# Altium footprint library Devindia_v2.0.PcbLib: 105 footprints (part 1 of 7)
Each footprint in its own frame and in the unit in brackets; x right, y up, seen from the top. Pads: shape width x height; smd on the part's side, far side on the other; paste and mask are expansions set on the pad; w line width, h text height; cw(c..) or ccw(c..) is an arc to the next point about the centre after c.
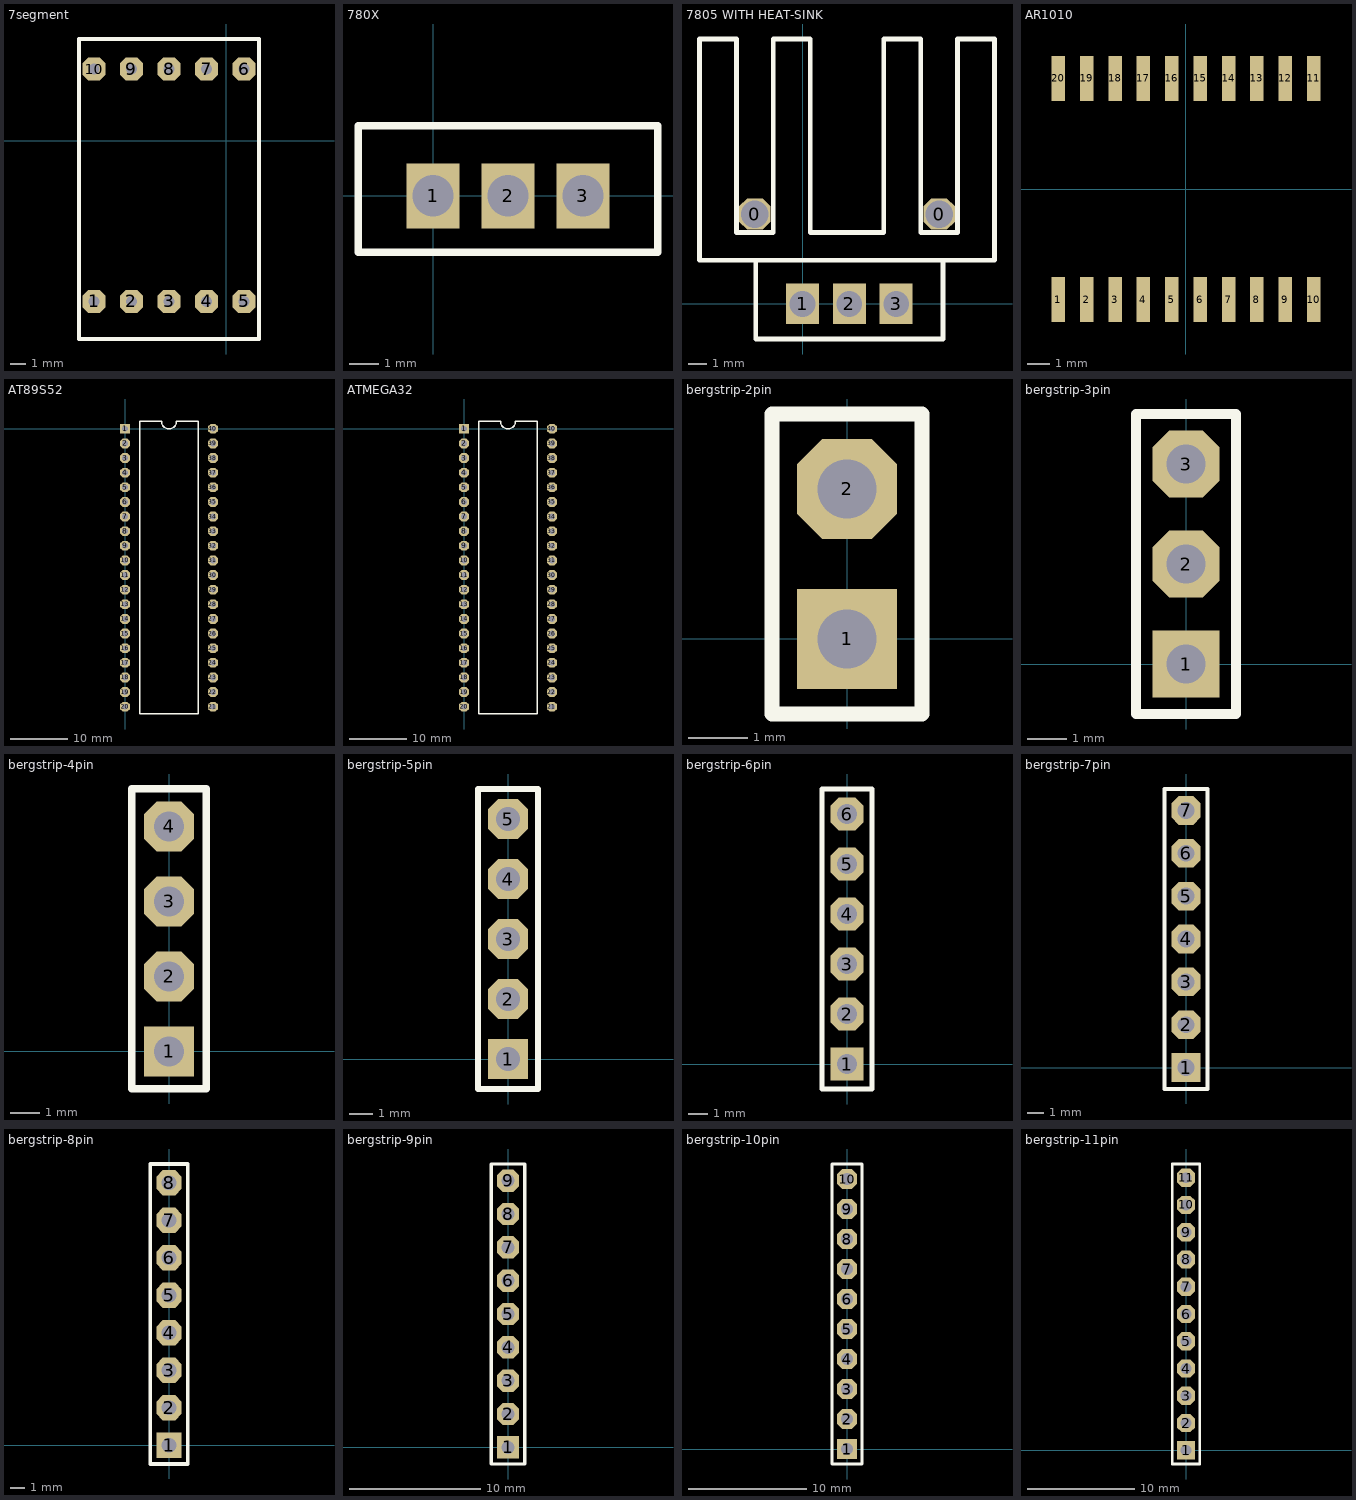
[diagram p0: the footprints below, top view; thin cyan lines are the x and y axes]

## 7segment [mil]
pads (10):
  oct 60x60 hole 30: 1(-347.52,-422.48) 2(-249.09,-422.48) 3(-150.67,-422.48) 4(-52.24,-422.48) 5(46.18,-422.48) 6(46.18,187.76) 7(-52.24,187.76) 8(-150.67,187.76) 9(-249.09,187.76) 10(-347.52,187.76)
Top Overlay:
  lines w10: -386.89,-520.91 -386.89,266.5 85.55,266.5 85.55,-520.91 -386.89,-520.91
3D body: height 362.2, standoff 354.33, extent -327.56,-438.19 7.09,-418.43
3D body: height 362.2, standoff 354.33, extent -285.98,174.57 48.66,194.33
3D body: height 362.2, standoff 354.33, extent 29.05,-376.46 68.35,-337.24
3D body: height 39.37, standoff 0, extent -367.17,-442.17 -327.87,-402.95
3D body: height 39.37, standoff 0, extent -268.74,-442.17 -229.45,-402.95
3D body: height 39.37, standoff 0, extent -170.32,-442.17 -131.02,-402.95
3D body: height 39.37, standoff 0, extent -71.89,-442.17 -32.6,-402.95
3D body: height 39.37, standoff 0, extent 26.53,-442.17 65.83,-402.95
3D body: height 39.37, standoff 0, extent -367.17,168.07 -327.87,207.29
3D body: height 39.37, standoff 0, extent -268.74,168.07 -229.45,207.29
3D body: height 39.37, standoff 0, extent -170.32,168.07 -131.02,207.29
3D body: height 39.37, standoff 0, extent -71.89,168.07 -32.6,207.29
3D body: height 39.37, standoff 0, extent 26.53,168.07 65.83,207.29
3D body: height 354.33, standoff 39.37, extent -384.41,-514.33 88.03,273.07
3D body: height 362.2, standoff 354.33, extent -305.67,-140.31 28.98,-100.94
3D body: height 362.2, standoff 354.33, extent 9.29,-100.94 48.66,174.65
3D body: height 362.2, standoff 354.33, extent -10.39,-415.91 28.98,-140.31
3D body: height 362.2, standoff 354.33, extent -325.35,-415.91 -285.98,-140.31
3D body: height 362.2, standoff 354.33, extent -305.67,-100.94 -266.3,174.65

## 780X [mm]
pads (3):
  rect 1.8x2.2 hole 1.4: 1(0,0) 2(2.54,0) 3(5.08,0)
Top Overlay:
  lines w0.254: -2.54,-1.905 7.62,-1.905 7.62,2.373 -2.54,2.373 -2.54,-1.905
3D body: height 16, standoff 7, extent -2.413,-2.032 7.747,2.413
3D body: height 7, standoff 0, extent -0.635,-0.127 0.635,0.127
3D body: height 7, standoff 0, extent 1.905,-0.127 3.175,0.127
3D body: height 7, standoff 0, extent 4.445,-0.127 5.715,0.127
3D body: height 23, standoff 16, extent -2.413,1.016 7.493,2.413

## 7805 WITH HEAT-SINK [mm]
pads (5):
  oct 1.7x1.7 hole 1.5: 0(-2.587,4.873) 0(7.413,4.873)
  rect 1.8x2.2 hole 1.4: 1(0,0) 2(2.54,0) 3(5.08,0)
Top Overlay:
  lines w0.254: -5.587,2.373 10.413,2.373 10.413,14.373 8.413,14.373 8.413,3.873 6.413,3.873 6.413,14.373 4.413,14.373 4.413,3.873 0.413,3.873 0.413,14.373 -1.587,14.373 -1.587,3.873 -3.587,3.873 -3.587,14.373 -5.587,14.373 -5.587,2.373 ; -2.54,-1.905 -2.54,2.373 7.62,2.373 7.62,-1.905 -2.54,-1.905
3D body: height 20.5, standoff 0, extent -5.588,2.413 10.414,14.351
3D body: height 20, standoff 13, extent -2.413,1.016 7.493,2.413
3D body: height 7, standoff 0, extent 4.445,-0.127 5.715,0.127
3D body: height 7, standoff 0, extent 1.905,-0.127 3.175,0.127
3D body: height 7, standoff 0, extent -0.635,-0.127 0.635,0.127
3D body: height 13, standoff 4, extent -2.413,-2.032 7.747,2.413

## AR1010 [mm]
pads (20):
  rect 0.6x2 smd: 1(-5.715,-4.95) 2(-4.445,-4.95) 3(-3.175,-4.95) 4(-1.905,-4.95) 5(-0.635,-4.95) 6(0.635,-4.95) 7(1.905,-4.95) 8(3.175,-4.95) 9(4.445,-4.95) 10(5.715,-4.95) 11(5.715,4.95) 12(4.445,4.95) 13(3.175,4.95) 14(1.905,4.95) 15(0.635,4.95) 16(-0.635,4.95) 17(-1.905,4.95) 18(-3.175,4.95) 19(-4.445,4.95) 20(-5.715,4.95)
Bottom Overlay:
  circle w0.254: c-5.695,-3.115 r0.284
  lines w0.254: -6.4,-3.75 -6.4,3.75 6.4,3.75 6.4,-3.75 -6.4,-3.75
3D body: height 2.15, standoff 2.05, extent -5.969,-2.54 -5.46,-2.034
3D body: height 0.32, standoff 0, extent -5.969,-5.588 -5.461,-4.318
3D body: height 1, standoff 0.16, extent -5.969,-4.445 -5.461,-4.191
3D body: height 0.32, standoff 0, extent -5.969,-4.51 -5.461,-4.191
3D body: height 1.16, standoff 0.84, extent -5.969,-4.445 -5.461,-4.126
3D body: height 1.16, standoff 0.84, extent -5.969,-4.318 -5.461,-3.175
3D body: height 0.32, standoff 0, extent -4.699,-5.588 -4.191,-4.318
3D body: height 1, standoff 0.16, extent -4.699,-4.445 -4.191,-4.191
3D body: height 0.32, standoff 0, extent -4.699,-4.51 -4.191,-4.191
3D body: height 1.16, standoff 0.84, extent -4.699,-4.445 -4.191,-4.126
3D body: height 1.16, standoff 0.84, extent -4.699,-4.318 -4.191,-3.175
3D body: height 0.32, standoff 0, extent -3.429,-5.588 -2.921,-4.318
3D body: height 1, standoff 0.16, extent -3.429,-4.445 -2.921,-4.191
3D body: height 0.32, standoff 0, extent -3.429,-4.51 -2.921,-4.191
3D body: height 1.16, standoff 0.84, extent -3.429,-4.445 -2.921,-4.126
3D body: height 1.16, standoff 0.84, extent -3.429,-4.318 -2.921,-3.175
3D body: height 0.32, standoff 0, extent -2.159,-5.588 -1.651,-4.318
3D body: height 1, standoff 0.16, extent -2.159,-4.445 -1.651,-4.191
3D body: height 0.32, standoff 0, extent -2.159,-4.51 -1.651,-4.191
3D body: height 1.16, standoff 0.84, extent -2.159,-4.445 -1.651,-4.126
3D body: height 1.16, standoff 0.84, extent -2.159,-4.318 -1.651,-3.175
3D body: height 0.32, standoff 0, extent -0.889,-5.588 -0.381,-4.318
3D body: height 1, standoff 0.16, extent -0.889,-4.445 -0.381,-4.191
3D body: height 0.32, standoff 0, extent -0.889,-4.51 -0.381,-4.191
3D body: height 1.16, standoff 0.84, extent -0.889,-4.445 -0.381,-4.126
3D body: height 1.16, standoff 0.84, extent -0.889,-4.318 -0.381,-3.175
3D body: height 0.32, standoff 0, extent 0.381,-5.588 0.889,-4.318
3D body: height 1, standoff 0.16, extent 0.381,-4.445 0.889,-4.191
3D body: height 0.32, standoff 0, extent 0.381,-4.51 0.889,-4.191
3D body: height 1.16, standoff 0.84, extent 0.381,-4.445 0.889,-4.126
3D body: height 1.16, standoff 0.84, extent 0.381,-4.318 0.889,-3.175
3D body: height 0.32, standoff 0, extent 1.651,-5.588 2.159,-4.318
3D body: height 1, standoff 0.16, extent 1.651,-4.445 2.159,-4.191
3D body: height 0.32, standoff 0, extent 1.651,-4.51 2.159,-4.191
3D body: height 1.16, standoff 0.84, extent 1.651,-4.445 2.159,-4.126
3D body: height 1.16, standoff 0.84, extent 1.651,-4.318 2.159,-3.175
3D body: height 0.32, standoff 0, extent 2.921,-5.588 3.429,-4.318
3D body: height 1, standoff 0.16, extent 2.921,-4.445 3.429,-4.191
3D body: height 0.32, standoff 0, extent 2.921,-4.51 3.429,-4.191
3D body: height 1.16, standoff 0.84, extent 2.921,-4.445 3.429,-4.126
3D body: height 1.16, standoff 0.84, extent 2.921,-4.318 3.429,-3.175
3D body: height 0.32, standoff 0, extent 4.191,-5.588 4.699,-4.318
3D body: height 1, standoff 0.16, extent 4.191,-4.445 4.699,-4.191
3D body: height 0.32, standoff 0, extent 4.191,-4.51 4.699,-4.191
3D body: height 1.16, standoff 0.84, extent 4.191,-4.445 4.699,-4.126
3D body: height 1.16, standoff 0.84, extent 4.191,-4.318 4.699,-3.175
3D body: height 0.32, standoff 0, extent 5.461,-5.588 5.969,-4.318
3D body: height 1, standoff 0.16, extent 5.461,-4.445 5.969,-4.191
3D body: height 0.32, standoff 0, extent 5.461,-4.51 5.969,-4.191
3D body: height 1.16, standoff 0.84, extent 5.461,-4.445 5.969,-4.126
3D body: height 1.16, standoff 0.84, extent 5.461,-4.318 5.969,-3.175
3D body: height 0.32, standoff 0, extent 5.461,4.318 5.969,5.588
3D body: height 1, standoff 0.16, extent 5.461,4.191 5.969,4.445
3D body: height 0.32, standoff 0, extent 5.461,4.191 5.969,4.51
3D body: height 1.16, standoff 0.84, extent 5.461,4.126 5.969,4.445
3D body: height 1.16, standoff 0.84, extent 5.461,3.175 5.969,4.318
3D body: height 0.32, standoff 0, extent 4.191,4.318 4.699,5.588
3D body: height 1, standoff 0.16, extent 4.191,4.191 4.699,4.445
3D body: height 0.32, standoff 0, extent 4.191,4.191 4.699,4.51
3D body: height 1.16, standoff 0.84, extent 4.191,4.126 4.699,4.445
3D body: height 1.16, standoff 0.84, extent 4.191,3.175 4.699,4.318
3D body: height 0.32, standoff 0, extent 2.921,4.318 3.429,5.588
3D body: height 1, standoff 0.16, extent 2.921,4.191 3.429,4.445
3D body: height 0.32, standoff 0, extent 2.921,4.191 3.429,4.51
3D body: height 1.16, standoff 0.84, extent 2.921,4.126 3.429,4.445
3D body: height 1.16, standoff 0.84, extent 2.921,3.175 3.429,4.318
3D body: height 0.32, standoff 0, extent 1.651,4.318 2.159,5.588
3D body: height 1, standoff 0.16, extent 1.651,4.191 2.159,4.445
3D body: height 0.32, standoff 0, extent 1.651,4.191 2.159,4.51
3D body: height 1.16, standoff 0.84, extent 1.651,4.126 2.159,4.445
3D body: height 1.16, standoff 0.84, extent 1.651,3.175 2.159,4.318
3D body: height 0.32, standoff 0, extent 0.381,4.318 0.889,5.588
3D body: height 1, standoff 0.16, extent 0.381,4.191 0.889,4.445
3D body: height 0.32, standoff 0, extent 0.381,4.191 0.889,4.51
3D body: height 1.16, standoff 0.84, extent 0.381,4.126 0.889,4.445
3D body: height 1.16, standoff 0.84, extent 0.381,3.175 0.889,4.318
3D body: height 0.32, standoff 0, extent -0.889,4.318 -0.381,5.588
3D body: height 1, standoff 0.16, extent -0.889,4.191 -0.381,4.445
3D body: height 0.32, standoff 0, extent -0.889,4.191 -0.381,4.51
3D body: height 1.16, standoff 0.84, extent -0.889,4.126 -0.381,4.445
3D body: height 1.16, standoff 0.84, extent -0.889,3.175 -0.381,4.318
3D body: height 0.32, standoff 0, extent -2.159,4.318 -1.651,5.588
3D body: height 1, standoff 0.16, extent -2.159,4.191 -1.651,4.445
3D body: height 0.32, standoff 0, extent -2.159,4.191 -1.651,4.51
3D body: height 1.16, standoff 0.84, extent -2.159,4.126 -1.651,4.445
3D body: height 1.16, standoff 0.84, extent -2.159,3.175 -1.651,4.318
3D body: height 0.32, standoff 0, extent -3.429,4.318 -2.921,5.588
3D body: height 1, standoff 0.16, extent -3.429,4.191 -2.921,4.445
3D body: height 0.32, standoff 0, extent -3.429,4.191 -2.921,4.51
3D body: height 1.16, standoff 0.84, extent -3.429,4.126 -2.921,4.445
3D body: height 1.16, standoff 0.84, extent -3.429,3.175 -2.921,4.318
3D body: height 0.32, standoff 0, extent -4.699,4.318 -4.191,5.588
3D body: height 1, standoff 0.16, extent -4.699,4.191 -4.191,4.445
3D body: height 1.16, standoff 0.84, extent -4.699,3.175 -4.191,4.318
3D body: height 0.32, standoff 0, extent -4.699,4.191 -4.191,4.51
3D body: height 1.16, standoff 0.84, extent -4.699,4.126 -4.191,4.445
3D body: height 0.32, standoff 0, extent -5.969,4.318 -5.461,5.588
3D body: height 1, standoff 0.16, extent -5.969,4.191 -5.461,4.445
3D body: height 1.16, standoff 0.84, extent -5.969,3.175 -5.461,4.318
3D body: height 0.32, standoff 0, extent -5.969,4.191 -5.461,4.51
3D body: height 1.16, standoff 0.84, extent -5.969,4.126 -5.461,4.445
3D body: height 1.18, standoff 0.1, extent -6.35,-3.81 6.35,3.81
3D body: height 2.05, standoff 1.05, extent -6.35,-3.175 6.35,3.175

## AT89S52 [mm]
pads (40):
  rect 1.7x1.7 hole 1: 1(0,0)
  oct 1.7x1.7 hole 1: 2(0,-2.54) 3(0,-5.08) 4(0,-7.62) 5(0,-10.16) 6(0,-12.7) 7(0,-15.24) 8(0,-17.78) 9(0,-20.32) 10(0,-22.86) 11(0,-25.4) 12(0,-27.94) 13(0,-30.48) 14(0,-33.02) 15(0,-35.56) 16(0,-38.1) 17(0,-40.64) 18(0,-43.18) 19(0,-45.72) 20(0,-48.26) 21(15.24,-48.26) 22(15.24,-45.72) 23(15.24,-43.18) 24(15.24,-40.64) 25(15.24,-38.1) 26(15.24,-35.56) 27(15.24,-33.02) 28(15.24,-30.48) 29(15.24,-27.94) 30(15.24,-25.4) 31(15.24,-22.86) 32(15.24,-20.32) 33(15.24,-17.78) 34(15.24,-15.24) 35(15.24,-12.7) 36(15.24,-10.16) 37(15.24,-7.62) 38(15.24,-5.08) 39(15.24,-2.54) 40(15.24,0)
Top Overlay:
  lines w0.254: 6.325,1.27 ccw(c7.62,1.27) 8.915,1.27 ; 6.35,1.27 2.54,1.27 2.54,-49.53 12.7,-49.53 12.7,1.27 8.89,1.27
Mechanical 1:
  circle w0.254: c15.24,0 r0.508
3D body: height 3, standoff 1, extent -0.762,-0.762 0.762,0.762
3D body: height 3, standoff 0, extent -0.508,-18.279 0.488,-17.281
3D body: height 3, standoff 0, extent -0.508,-48.759 0.488,-47.761
3D body: height 3, standoff 0, extent -0.508,-46.219 0.488,-45.221
3D body: height 3, standoff 0, extent -0.508,-43.679 0.488,-42.681
3D body: height 3, standoff 0, extent -0.508,-41.139 0.488,-40.141
3D body: height 3, standoff 0, extent -0.508,-38.599 0.488,-37.601
3D body: height 3, standoff 0, extent -0.508,-36.059 0.488,-35.061
3D body: height 3, standoff 0, extent -0.508,-33.519 0.488,-32.521
3D body: height 3, standoff 0, extent -0.508,-30.979 0.488,-29.981
3D body: height 3, standoff 0, extent -0.508,-28.439 0.488,-27.441
3D body: height 3, standoff 0, extent -0.508,-25.899 0.488,-24.901
3D body: height 3, standoff 0, extent -0.508,-23.359 0.488,-22.361
3D body: height 3, standoff 0, extent -0.508,-20.819 0.488,-19.821
3D body: height 3, standoff 0, extent -0.508,-15.739 0.488,-14.741
3D body: height 3, standoff 0, extent -0.508,-13.199 0.488,-12.201
3D body: height 3, standoff 0, extent -0.508,-10.659 0.488,-9.661
3D body: height 3, standoff 0, extent -0.508,-13.199 0.488,-12.201
3D body: height 3, standoff 0, extent -0.508,-10.659 0.488,-9.661
3D body: height 3, standoff 0, extent -0.508,-8.119 0.488,-7.121
3D body: height 3, standoff 0, extent -0.508,-5.579 0.488,-4.581
3D body: height 3, standoff 0, extent -0.508,-3.039 0.488,-2.041
3D body: height 3, standoff 0, extent 14.732,-18.279 15.728,-17.281
3D body: height 3, standoff 0, extent 14.732,-15.739 15.728,-14.741
3D body: height 3, standoff 0, extent 14.732,-20.819 15.728,-19.821
3D body: height 3, standoff 0, extent 14.732,-23.359 15.728,-22.361
3D body: height 3, standoff 0, extent 14.732,-25.899 15.728,-24.901
3D body: height 3, standoff 0, extent 14.732,-28.439 15.728,-27.441
3D body: height 3, standoff 0, extent 14.732,-30.979 15.728,-29.981
3D body: height 3, standoff 0, extent 14.732,-33.519 15.728,-32.521
3D body: height 3, standoff 0, extent 14.732,-36.059 15.728,-35.061
3D body: height 3, standoff 0, extent 14.732,-38.599 15.728,-37.601
3D body: height 3, standoff 0, extent 14.732,-41.139 15.728,-40.141
3D body: height 3, standoff 0, extent 14.732,-43.679 15.728,-42.681
3D body: height 3, standoff 0, extent 14.732,-46.219 15.728,-45.221
3D body: height 3, standoff 0, extent 14.732,-48.759 15.728,-47.761
3D body: height 3, standoff 0, extent 14.732,-18.279 15.728,-17.281
3D body: height 3, standoff 0, extent 14.732,-13.199 15.728,-12.201
3D body: height 3, standoff 0, extent 14.732,-10.659 15.728,-9.661
3D body: height 3, standoff 0, extent 14.732,-8.119 15.728,-7.121
3D body: height 3, standoff 0, extent 14.732,-5.579 15.728,-4.581
3D body: height 3, standoff 0, extent 14.732,-3.039 15.728,-2.041
3D body: height 3, standoff 1, extent 0,-0.508 2.54,0.508
3D body: height 3, standoff 1, extent 0,-3.048 2.54,-2.032
3D body: height 3, standoff 1, extent 0,-5.588 2.54,-4.572
3D body: height 3, standoff 1, extent 0,-8.128 2.54,-7.112
3D body: height 3, standoff 1, extent 0,-10.668 2.54,-9.652
3D body: height 3, standoff 1, extent 0,-13.208 2.54,-12.192
3D body: height 3, standoff 1, extent 0,-15.748 2.54,-14.732
3D body: height 3, standoff 1, extent 0,-18.288 2.54,-17.272
3D body: height 3, standoff 1, extent 0,-20.828 2.54,-19.812
3D body: height 3, standoff 1, extent 0,-23.368 2.54,-22.352
3D body: height 3, standoff 1, extent 0,-25.908 2.54,-24.892
3D body: height 3, standoff 1, extent 0,-28.448 2.54,-27.432
3D body: height 3, standoff 1, extent 0,-30.988 2.54,-29.972
3D body: height 3, standoff 1, extent 0,-33.528 2.54,-32.512
3D body: height 3, standoff 1, extent 0,-36.068 2.54,-35.052
3D body: height 3, standoff 1, extent 0,-38.608 2.54,-37.592
3D body: height 3, standoff 1, extent 0,-41.148 2.54,-40.132
3D body: height 3, standoff 1, extent 0,-43.688 2.54,-42.672
3D body: height 3, standoff 1, extent 0,-46.228 2.54,-45.212
3D body: height 3, standoff 1, extent 0,-48.768 2.54,-47.752
3D body: height 3, standoff 1, extent 12.7,-48.768 15.24,-47.752
3D body: height 3, standoff 1, extent 12.7,-46.228 15.24,-45.212
3D body: height 3, standoff 1, extent 12.7,-43.688 15.24,-42.672
3D body: height 3, standoff 1, extent 12.7,-41.148 15.24,-40.132
3D body: height 3, standoff 1, extent 12.7,-38.608 15.24,-37.592
3D body: height 3, standoff 1, extent 12.7,-36.068 15.24,-35.052
3D body: height 3, standoff 1, extent 12.7,-33.528 15.24,-32.512
3D body: height 3, standoff 1, extent 12.7,-30.988 15.24,-29.972
3D body: height 3, standoff 1, extent 12.7,-28.448 15.24,-27.432
3D body: height 3, standoff 1, extent 12.7,-25.908 15.24,-24.892
3D body: height 3, standoff 1, extent 12.7,-23.368 15.24,-22.352
3D body: height 3, standoff 1, extent 12.7,-20.828 15.24,-19.812
3D body: height 3, standoff 1, extent 12.7,-18.288 15.24,-17.272
3D body: height 3, standoff 1, extent 12.7,-15.748 15.24,-14.732
3D body: height 3, standoff 1, extent 12.7,-13.208 15.24,-12.192
3D body: height 3, standoff 1, extent 12.7,-10.668 15.24,-9.652
3D body: height 3, standoff 1, extent 12.7,-8.128 15.24,-7.112
3D body: height 3, standoff 1, extent 12.7,-5.588 15.24,-4.572
3D body: height 3, standoff 1, extent 12.7,-3.048 15.24,-2.032
3D body: height 3, standoff 0, extent 14.732,-0.499 15.728,0.499
3D body: height 3, standoff 1, extent 12.7,-0.508 15.24,0.508
3D body: height 3, standoff 1, extent 2.286,-49.53 12.7,1.317

## ATMEGA32 [mm]
pads (40):
  rect 1.7x1.7 hole 1: 1(0,0)
  oct 1.7x1.7 hole 1: 2(0,-2.54) 3(0,-5.08) 4(0,-7.62) 5(0,-10.16) 6(0,-12.7) 7(0,-15.24) 8(0,-17.78) 9(0,-20.32) 10(0,-22.86) 11(0,-25.4) 12(0,-27.94) 13(0,-30.48) 14(0,-33.02) 15(0,-35.56) 16(0,-38.1) 17(0,-40.64) 18(0,-43.18) 19(0,-45.72) 20(0,-48.26) 21(15.24,-48.26) 22(15.24,-45.72) 23(15.24,-43.18) 24(15.24,-40.64) 25(15.24,-38.1) 26(15.24,-35.56) 27(15.24,-33.02) 28(15.24,-30.48) 29(15.24,-27.94) 30(15.24,-25.4) 31(15.24,-22.86) 32(15.24,-20.32) 33(15.24,-17.78) 34(15.24,-15.24) 35(15.24,-12.7) 36(15.24,-10.16) 37(15.24,-7.62) 38(15.24,-5.08) 39(15.24,-2.54) 40(15.24,0)
Top Overlay:
  lines w0.254: 6.325,1.27 ccw(c7.62,1.27) 8.915,1.27 ; 6.35,1.27 2.54,1.27 2.54,-49.53 12.7,-49.53 12.7,1.27 8.89,1.27
Mechanical 1:
  circle w0.254: c15.24,0 r0.508
3D body: height 3, standoff 1, extent 2.286,-49.53 12.7,1.317
3D body: height 3, standoff 1, extent 12.7,-0.508 15.24,0.508
3D body: height 3, standoff 0, extent 14.732,-0.499 15.728,0.499
3D body: height 3, standoff 1, extent 12.7,-3.048 15.24,-2.032
3D body: height 3, standoff 1, extent 12.7,-5.588 15.24,-4.572
3D body: height 3, standoff 1, extent 12.7,-8.128 15.24,-7.112
3D body: height 3, standoff 1, extent 12.7,-10.668 15.24,-9.652
3D body: height 3, standoff 1, extent 12.7,-13.208 15.24,-12.192
3D body: height 3, standoff 1, extent 12.7,-15.748 15.24,-14.732
3D body: height 3, standoff 1, extent 12.7,-18.288 15.24,-17.272
3D body: height 3, standoff 1, extent 12.7,-20.828 15.24,-19.812
3D body: height 3, standoff 1, extent 12.7,-23.368 15.24,-22.352
3D body: height 3, standoff 1, extent 12.7,-25.908 15.24,-24.892
3D body: height 3, standoff 1, extent 12.7,-28.448 15.24,-27.432
3D body: height 3, standoff 1, extent 12.7,-30.988 15.24,-29.972
3D body: height 3, standoff 1, extent 12.7,-33.528 15.24,-32.512
3D body: height 3, standoff 1, extent 12.7,-36.068 15.24,-35.052
3D body: height 3, standoff 1, extent 12.7,-38.608 15.24,-37.592
3D body: height 3, standoff 1, extent 12.7,-41.148 15.24,-40.132
3D body: height 3, standoff 1, extent 12.7,-43.688 15.24,-42.672
3D body: height 3, standoff 1, extent 12.7,-46.228 15.24,-45.212
3D body: height 3, standoff 1, extent 12.7,-48.768 15.24,-47.752
3D body: height 3, standoff 1, extent 0,-48.768 2.54,-47.752
3D body: height 3, standoff 1, extent 0,-46.228 2.54,-45.212
3D body: height 3, standoff 1, extent 0,-43.688 2.54,-42.672
3D body: height 3, standoff 1, extent 0,-41.148 2.54,-40.132
3D body: height 3, standoff 1, extent 0,-38.608 2.54,-37.592
3D body: height 3, standoff 1, extent 0,-36.068 2.54,-35.052
3D body: height 3, standoff 1, extent 0,-33.528 2.54,-32.512
3D body: height 3, standoff 1, extent 0,-30.988 2.54,-29.972
3D body: height 3, standoff 1, extent 0,-28.448 2.54,-27.432
3D body: height 3, standoff 1, extent 0,-25.908 2.54,-24.892
3D body: height 3, standoff 1, extent 0,-23.368 2.54,-22.352
3D body: height 3, standoff 1, extent 0,-20.828 2.54,-19.812
3D body: height 3, standoff 1, extent 0,-18.288 2.54,-17.272
3D body: height 3, standoff 1, extent 0,-15.748 2.54,-14.732
3D body: height 3, standoff 1, extent 0,-13.208 2.54,-12.192
3D body: height 3, standoff 1, extent 0,-10.668 2.54,-9.652
3D body: height 3, standoff 1, extent 0,-8.128 2.54,-7.112
3D body: height 3, standoff 1, extent 0,-5.588 2.54,-4.572
3D body: height 3, standoff 1, extent 0,-3.048 2.54,-2.032
3D body: height 3, standoff 1, extent 0,-0.508 2.54,0.508
3D body: height 3, standoff 0, extent 14.732,-3.039 15.728,-2.041
3D body: height 3, standoff 0, extent 14.732,-5.579 15.728,-4.581
3D body: height 3, standoff 0, extent 14.732,-8.119 15.728,-7.121
3D body: height 3, standoff 0, extent 14.732,-10.659 15.728,-9.661
3D body: height 3, standoff 0, extent 14.732,-13.199 15.728,-12.201
3D body: height 3, standoff 0, extent 14.732,-18.279 15.728,-17.281
3D body: height 3, standoff 0, extent 14.732,-48.759 15.728,-47.761
3D body: height 3, standoff 0, extent 14.732,-46.219 15.728,-45.221
3D body: height 3, standoff 0, extent 14.732,-43.679 15.728,-42.681
3D body: height 3, standoff 0, extent 14.732,-41.139 15.728,-40.141
3D body: height 3, standoff 0, extent 14.732,-38.599 15.728,-37.601
3D body: height 3, standoff 0, extent 14.732,-36.059 15.728,-35.061
3D body: height 3, standoff 0, extent 14.732,-33.519 15.728,-32.521
3D body: height 3, standoff 0, extent 14.732,-30.979 15.728,-29.981
3D body: height 3, standoff 0, extent 14.732,-28.439 15.728,-27.441
3D body: height 3, standoff 0, extent 14.732,-25.899 15.728,-24.901
3D body: height 3, standoff 0, extent 14.732,-23.359 15.728,-22.361
3D body: height 3, standoff 0, extent 14.732,-20.819 15.728,-19.821
3D body: height 3, standoff 0, extent 14.732,-15.739 15.728,-14.741
3D body: height 3, standoff 0, extent 14.732,-18.279 15.728,-17.281
3D body: height 3, standoff 0, extent -0.508,-3.039 0.488,-2.041
3D body: height 3, standoff 0, extent -0.508,-5.579 0.488,-4.581
3D body: height 3, standoff 0, extent -0.508,-8.119 0.488,-7.121
3D body: height 3, standoff 0, extent -0.508,-10.659 0.488,-9.661
3D body: height 3, standoff 0, extent -0.508,-13.199 0.488,-12.201
3D body: height 3, standoff 0, extent -0.508,-10.659 0.488,-9.661
3D body: height 3, standoff 0, extent -0.508,-13.199 0.488,-12.201
3D body: height 3, standoff 0, extent -0.508,-15.739 0.488,-14.741
3D body: height 3, standoff 0, extent -0.508,-20.819 0.488,-19.821
3D body: height 3, standoff 0, extent -0.508,-23.359 0.488,-22.361
3D body: height 3, standoff 0, extent -0.508,-25.899 0.488,-24.901
3D body: height 3, standoff 0, extent -0.508,-28.439 0.488,-27.441
3D body: height 3, standoff 0, extent -0.508,-30.979 0.488,-29.981
3D body: height 3, standoff 0, extent -0.508,-33.519 0.488,-32.521
3D body: height 3, standoff 0, extent -0.508,-36.059 0.488,-35.061
3D body: height 3, standoff 0, extent -0.508,-38.599 0.488,-37.601
3D body: height 3, standoff 0, extent -0.508,-41.139 0.488,-40.141
3D body: height 3, standoff 0, extent -0.508,-43.679 0.488,-42.681
3D body: height 3, standoff 0, extent -0.508,-46.219 0.488,-45.221
3D body: height 3, standoff 0, extent -0.508,-48.759 0.488,-47.761
3D body: height 3, standoff 0, extent -0.508,-18.279 0.488,-17.281
3D body: height 3, standoff 1, extent -0.762,-0.762 0.762,0.762

## bergstrip-2pin [mm]
pads (2):
  rect 1.7x1.7 hole 1: 1(0,0)
  oct 1.7x1.7 hole 1: 2(0,2.54)
Top Overlay:
  lines w0.254: -1.27,-1.27 1.27,-1.27 1.27,3.81 -1.27,3.81 -1.27,-1.27
3D body: height 2, standoff 0, extent -1.27,1.27 1.27,3.81
3D body: height 9.89, standoff 2, extent -0.49,2.032 0.508,3.028
3D body: height 2, standoff 0, extent -1.27,-1.27 1.27,1.27
3D body: height 9.89, standoff 2, extent -0.49,-0.508 0.508,0.488

## bergstrip-3pin [mm]
pads (3):
  rect 1.7x1.7 hole 1: 1(0,0)
  oct 1.7x1.7 hole 1: 2(0,2.54) 3(0,5.08)
Top Overlay:
  lines w0.254: -1.27,-1.27 -1.27,6.35 1.27,6.35 1.27,-1.27 -1.27,-1.27
3D body: height 2, standoff 0, extent -1.27,3.81 1.27,6.35
3D body: height 9.89, standoff 2, extent -0.49,4.572 0.508,5.568
3D body: height 2, standoff 0, extent -1.27,1.27 1.27,3.81
3D body: height 9.89, standoff 2, extent -0.49,2.032 0.508,3.028
3D body: height 2, standoff 0, extent -1.27,-1.27 1.27,1.27
3D body: height 9.89, standoff 2, extent -0.49,-0.508 0.508,0.488

## bergstrip-4pin [mm]
pads (4):
  rect 1.7x1.7 hole 1: 1(0,0)
  oct 1.7x1.7 hole 1: 2(0,2.54) 3(0,5.08) 4(0,7.62)
Top Overlay:
  lines w0.254: -1.27,-1.27 1.27,-1.27 1.27,8.89 -1.27,8.89 -1.27,-1.27
3D body: height 9.89, standoff 2, extent -0.49,-0.508 0.508,0.488
3D body: height 2, standoff 0, extent -1.27,-1.27 1.27,1.27
3D body: height 9.89, standoff 2, extent -0.49,2.032 0.508,3.028
3D body: height 2, standoff 0, extent -1.27,1.27 1.27,3.81
3D body: height 9.89, standoff 2, extent -0.49,4.572 0.508,5.568
3D body: height 2, standoff 0, extent -1.27,3.81 1.27,6.35
3D body: height 9.89, standoff 2, extent -0.49,7.112 0.508,8.108
3D body: height 2, standoff 0, extent -1.27,6.35 1.27,8.89

## bergstrip-5pin [mm]
pads (5):
  rect 1.7x1.7 hole 1: 1(0,0)
  oct 1.7x1.7 hole 1: 2(0,2.54) 3(0,5.08) 4(0,7.62) 5(0,10.16)
Top Overlay:
  lines w0.254: -1.27,-1.27 -1.27,11.43 1.27,11.43 1.27,-1.27 -1.27,-1.27
3D body: height 2, standoff 0, extent -1.27,8.89 1.27,11.43
3D body: height 9.89, standoff 2, extent -0.49,9.652 0.508,10.648
3D body: height 2, standoff 0, extent -1.27,6.35 1.27,8.89
3D body: height 9.89, standoff 2, extent -0.49,7.112 0.508,8.108
3D body: height 2, standoff 0, extent -1.27,3.81 1.27,6.35
3D body: height 9.89, standoff 2, extent -0.49,4.572 0.508,5.568
3D body: height 2, standoff 0, extent -1.27,1.27 1.27,3.81
3D body: height 9.89, standoff 2, extent -0.49,2.032 0.508,3.028
3D body: height 2, standoff 0, extent -1.27,-1.27 1.27,1.27
3D body: height 9.89, standoff 2, extent -0.49,-0.508 0.508,0.488

## bergstrip-6pin [mm]
pads (6):
  rect 1.7x1.7 hole 1: 1(0,0)
  oct 1.7x1.7 hole 1: 2(0,2.54) 3(0,5.08) 4(0,7.62) 5(0,10.16) 6(0,12.7)
Top Overlay:
  lines w0.254: -1.27,-1.27 1.27,-1.27 1.27,13.97 -1.27,13.97 -1.27,-1.27
3D body: height 9.89, standoff 2, extent -0.49,-0.508 0.508,0.488
3D body: height 2, standoff 0, extent -1.27,-1.27 1.27,1.27
3D body: height 9.89, standoff 2, extent -0.49,2.032 0.508,3.028
3D body: height 2, standoff 0, extent -1.27,1.27 1.27,3.81
3D body: height 9.89, standoff 2, extent -0.49,4.572 0.508,5.568
3D body: height 2, standoff 0, extent -1.27,3.81 1.27,6.35
3D body: height 9.89, standoff 2, extent -0.49,7.112 0.508,8.108
3D body: height 2, standoff 0, extent -1.27,6.35 1.27,8.89
3D body: height 9.89, standoff 2, extent -0.49,9.652 0.508,10.648
3D body: height 2, standoff 0, extent -1.27,8.89 1.27,11.43
3D body: height 9.89, standoff 2, extent -0.49,12.192 0.508,13.188
3D body: height 2, standoff 0, extent -1.27,11.43 1.27,13.97

## bergstrip-7pin [mm]
pads (7):
  rect 1.7x1.7 hole 1: 1(0,0)
  oct 1.7x1.7 hole 1: 2(0,2.54) 3(0,5.08) 4(0,7.62) 5(0,10.16) 6(0,12.7) 7(0,15.24)
Top Overlay:
  lines w0.254: -1.27,-1.27 -1.27,16.51 1.27,16.51 1.27,-1.27 -1.27,-1.27
3D body: height 9.89, standoff 2, extent -0.49,-0.508 0.508,0.488
3D body: height 2, standoff 0, extent -1.27,-1.27 1.27,1.27
3D body: height 9.89, standoff 2, extent -0.49,2.032 0.508,3.028
3D body: height 2, standoff 0, extent -1.27,1.27 1.27,3.81
3D body: height 9.89, standoff 2, extent -0.49,4.572 0.508,5.568
3D body: height 2, standoff 0, extent -1.27,3.81 1.27,6.35
3D body: height 9.89, standoff 2, extent -0.49,7.112 0.508,8.108
3D body: height 2, standoff 0, extent -1.27,6.35 1.27,8.89
3D body: height 9.89, standoff 2, extent -0.49,9.652 0.508,10.648
3D body: height 2, standoff 0, extent -1.27,8.89 1.27,11.43
3D body: height 9.89, standoff 2, extent -0.49,12.192 0.508,13.188
3D body: height 2, standoff 0, extent -1.27,11.43 1.27,13.97
3D body: height 9.89, standoff 2, extent -0.49,14.732 0.508,15.728
3D body: height 2, standoff 0, extent -1.27,13.97 1.27,16.51

## bergstrip-8pin [mm]
pads (8):
  rect 1.7x1.7 hole 1: 1(0,0)
  oct 1.7x1.7 hole 1: 2(0,2.54) 3(0,5.08) 4(0,7.62) 5(0,10.16) 6(0,12.7) 7(0,15.24) 8(0,17.78)
Top Overlay:
  lines w0.254: -1.27,-1.27 1.27,-1.27 1.27,19.05 -1.27,19.05 -1.27,-1.27
3D body: height 9.89, standoff 2, extent -0.49,-0.508 0.508,0.488
3D body: height 2, standoff 0, extent -1.27,-1.27 1.27,1.27
3D body: height 9.89, standoff 2, extent -0.49,2.032 0.508,3.028
3D body: height 2, standoff 0, extent -1.27,1.27 1.27,3.81
3D body: height 9.89, standoff 2, extent -0.49,4.572 0.508,5.568
3D body: height 2, standoff 0, extent -1.27,3.81 1.27,6.35
3D body: height 9.89, standoff 2, extent -0.49,7.112 0.508,8.108
3D body: height 2, standoff 0, extent -1.27,6.35 1.27,8.89
3D body: height 9.89, standoff 2, extent -0.49,9.652 0.508,10.648
3D body: height 2, standoff 0, extent -1.27,8.89 1.27,11.43
3D body: height 9.89, standoff 2, extent -0.49,12.192 0.508,13.188
3D body: height 2, standoff 0, extent -1.27,11.43 1.27,13.97
3D body: height 9.89, standoff 2, extent -0.49,14.732 0.508,15.728
3D body: height 2, standoff 0, extent -1.27,13.97 1.27,16.51
3D body: height 9.89, standoff 2, extent -0.49,17.272 0.508,18.268
3D body: height 2, standoff 0, extent -1.27,16.51 1.27,19.05

## bergstrip-9pin [mm]
pads (9):
  rect 1.7x1.7 hole 1: 1(0,0)
  oct 1.7x1.7 hole 1: 2(0,2.54) 3(0,5.08) 4(0,7.62) 5(0,10.16) 6(0,12.7) 7(0,15.24) 8(0,17.78) 9(0,20.32)
Top Overlay:
  lines w0.254: -1.27,-1.27 -1.27,21.59 1.27,21.59 1.27,-1.27 -1.27,-1.27
3D body: height 9.89, standoff 2, extent -0.49,-0.508 0.508,0.488
3D body: height 2, standoff 0, extent -1.27,-1.27 1.27,1.27
3D body: height 9.89, standoff 2, extent -0.49,2.032 0.508,3.028
3D body: height 2, standoff 0, extent -1.27,1.27 1.27,3.81
3D body: height 9.89, standoff 2, extent -0.49,4.572 0.508,5.568
3D body: height 2, standoff 0, extent -1.27,3.81 1.27,6.35
3D body: height 9.89, standoff 2, extent -0.49,7.112 0.508,8.108
3D body: height 2, standoff 0, extent -1.27,6.35 1.27,8.89
3D body: height 9.89, standoff 2, extent -0.49,9.652 0.508,10.648
3D body: height 2, standoff 0, extent -1.27,8.89 1.27,11.43
3D body: height 9.89, standoff 2, extent -0.49,12.192 0.508,13.188
3D body: height 2, standoff 0, extent -1.27,11.43 1.27,13.97
3D body: height 9.89, standoff 2, extent -0.49,14.732 0.508,15.728
3D body: height 2, standoff 0, extent -1.27,13.97 1.27,16.51
3D body: height 9.89, standoff 2, extent -0.49,17.272 0.508,18.268
3D body: height 2, standoff 0, extent -1.27,16.51 1.27,19.05
3D body: height 9.89, standoff 2, extent -0.49,19.812 0.508,20.808
3D body: height 2, standoff 0, extent -1.27,19.05 1.27,21.59

## bergstrip-10pin [mm]
pads (10):
  rect 1.7x1.7 hole 1: 1(0,0)
  oct 1.7x1.7 hole 1: 2(0,2.54) 3(0,5.08) 4(0,7.62) 5(0,10.16) 6(0,12.7) 7(0,15.24) 8(0,17.78) 9(0,20.32) 10(0,22.86)
Top Overlay:
  lines w0.254: -1.27,-1.27 -1.27,24.13 1.27,24.13 1.27,-1.27 -1.27,-1.27
3D body: height 9.89, standoff 2, extent -0.49,-0.508 0.508,0.488
3D body: height 2, standoff 0, extent -1.27,-1.27 1.27,1.27
3D body: height 9.89, standoff 2, extent -0.49,2.032 0.508,3.028
3D body: height 2, standoff 0, extent -1.27,1.27 1.27,3.81
3D body: height 9.89, standoff 2, extent -0.49,4.572 0.508,5.568
3D body: height 2, standoff 0, extent -1.27,3.81 1.27,6.35
3D body: height 9.89, standoff 2, extent -0.49,7.112 0.508,8.108
3D body: height 2, standoff 0, extent -1.27,6.35 1.27,8.89
3D body: height 9.89, standoff 2, extent -0.49,9.652 0.508,10.648
3D body: height 2, standoff 0, extent -1.27,8.89 1.27,11.43
3D body: height 9.89, standoff 2, extent -0.49,12.192 0.508,13.188
3D body: height 2, standoff 0, extent -1.27,11.43 1.27,13.97
3D body: height 9.89, standoff 2, extent -0.49,14.732 0.508,15.728
3D body: height 2, standoff 0, extent -1.27,13.97 1.27,16.51
3D body: height 9.89, standoff 2, extent -0.49,17.272 0.508,18.268
3D body: height 2, standoff 0, extent -1.27,16.51 1.27,19.05
3D body: height 9.89, standoff 2, extent -0.49,19.812 0.508,20.808
3D body: height 2, standoff 0, extent -1.27,19.05 1.27,21.59
3D body: height 9.89, standoff 2, extent -0.49,22.352 0.508,23.348
3D body: height 2, standoff 0, extent -1.27,21.59 1.27,24.13

## bergstrip-11pin [mm]
pads (11):
  rect 1.7x1.7 hole 1: 1(0,0)
  oct 1.7x1.7 hole 1: 2(0,2.54) 3(0,5.08) 4(0,7.62) 5(0,10.16) 6(0,12.7) 7(0,15.24) 8(0,17.78) 9(0,20.32) 10(0,22.86) 11(0,25.4)
Top Overlay:
  lines w0.254: -1.27,-1.27 1.27,-1.27 1.27,26.67 -1.27,26.67 -1.27,-1.27
3D body: height 2, standoff 0, extent -1.27,24.13 1.27,26.67
3D body: height 9.89, standoff 2, extent -0.49,24.892 0.508,25.888
3D body: height 2, standoff 0, extent -1.27,21.59 1.27,24.13
3D body: height 9.89, standoff 2, extent -0.49,22.352 0.508,23.348
3D body: height 2, standoff 0, extent -1.27,19.05 1.27,21.59
3D body: height 9.89, standoff 2, extent -0.49,19.812 0.508,20.808
3D body: height 2, standoff 0, extent -1.27,16.51 1.27,19.05
3D body: height 9.89, standoff 2, extent -0.49,17.272 0.508,18.268
3D body: height 2, standoff 0, extent -1.27,13.97 1.27,16.51
3D body: height 9.89, standoff 2, extent -0.49,14.732 0.508,15.728
3D body: height 2, standoff 0, extent -1.27,11.43 1.27,13.97
3D body: height 9.89, standoff 2, extent -0.49,12.192 0.508,13.188
3D body: height 2, standoff 0, extent -1.27,8.89 1.27,11.43
3D body: height 9.89, standoff 2, extent -0.49,9.652 0.508,10.648
3D body: height 2, standoff 0, extent -1.27,6.35 1.27,8.89
3D body: height 9.89, standoff 2, extent -0.49,7.112 0.508,8.108
3D body: height 2, standoff 0, extent -1.27,3.81 1.27,6.35
3D body: height 9.89, standoff 2, extent -0.49,4.572 0.508,5.568
3D body: height 2, standoff 0, extent -1.27,1.27 1.27,3.81
3D body: height 9.89, standoff 2, extent -0.49,2.032 0.508,3.028
3D body: height 2, standoff 0, extent -1.27,-1.27 1.27,1.27
3D body: height 9.89, standoff 2, extent -0.49,-0.508 0.508,0.488